# Altium footprint library PCB_Smart_FAN_Controller_RevA.PcbLib: 18 footprints (part 1 of 2)
Each footprint in its own frame and in the unit in brackets; x right, y up, seen from the top. Pads: shape width x height; smd on the part's side, far side on the other; paste and mask are expansions set on the pad; w line width, h text height; cw(c..) or ccw(c..) is an arc to the next point about the centre after c.
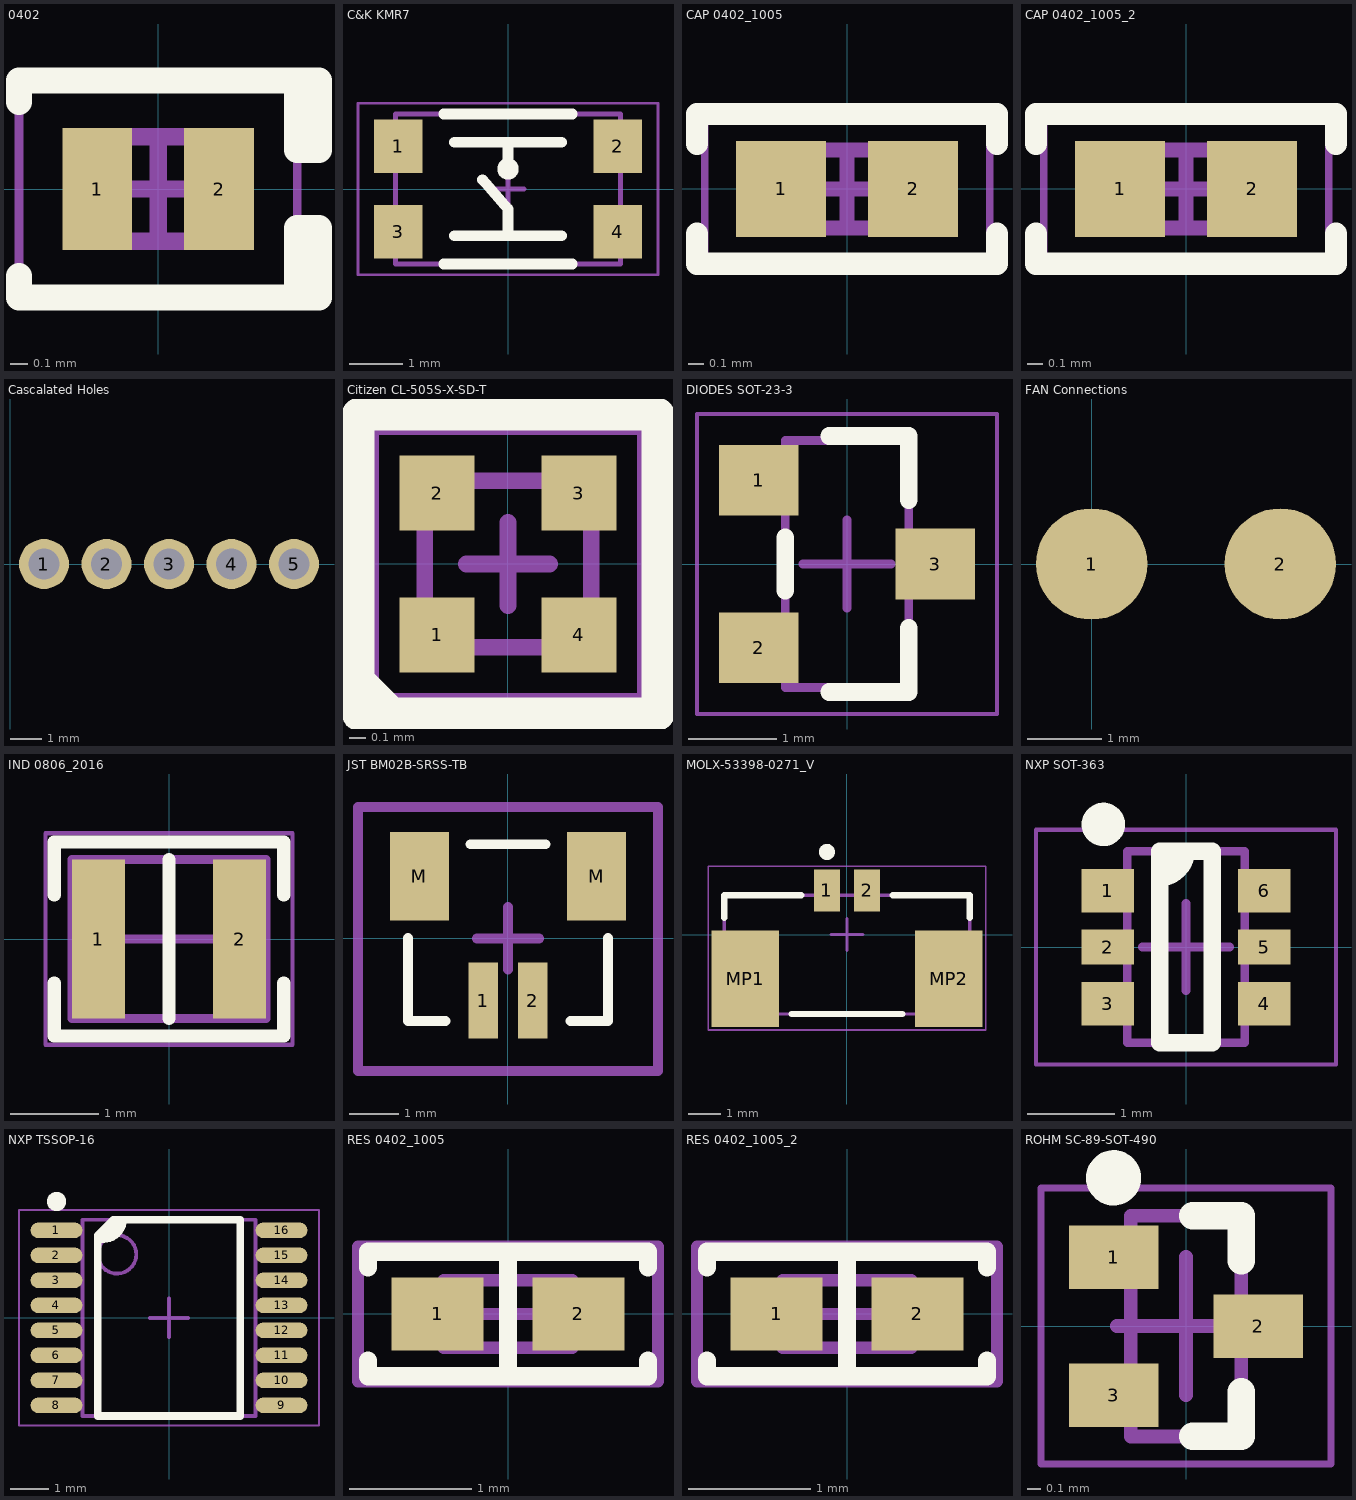
[diagram p0: the footprints below, top view; thin cyan lines are the x and y axes]

## 0402 [mm] "SODFL, 2-Leads, Body 0.675x1.075mm, IPC Medium Density"
height 0.4
pads (2):
  rect 0.4x0.7 smd: 1(-0.35,0) 2(0.35,0)
Top Overlay:
  lines w0.15: -0.8,-0.5 -0.8,-0.625 0.8,-0.625 ; -0.8,0.5 -0.8,0.625 0.8,0.625 ; 0.8,-0.625 0.925,-0.625 0.925,-0.225 0.8,-0.225 0.8,-0.625 ; 0.8,0.625 0.8,0.225 0.925,0.225 0.925,0.625 0.8,0.625
Mechanical 13:
  lines w0.1: -0.4,-0.3 0.4,-0.3 0.4,0.3 -0.4,0.3 -0.4,-0.3
Mechanical 15:
  lines w0.05: -0.8,-0.6 0.8,-0.6 0.8,0.6 -0.8,0.6 -0.8,-0.6
  lines w0.1: -0.25,0 0.25,0 ; 0,-0.25 0,0.25
3D body "DIODE - 0402.step": height 0.45, standoff 0, extent -0.505,-0.305 0.505,0.305

## C&K KMR7 [mm] "T-Switch, 4-leads, body 4.2x2.8mm, C&K KMR741NG ULC LFS"
height 2.5
pads (4):
  rect 0.9x1 smd mask+0.1: 1(-2.05,0.8) 2(2.05,0.8) 3(-2.05,-0.8) 4(2.05,-0.8)
Top Overlay:
  circle w0.2: c0,0.375 r0.1
  lines w0.2: -1.2,-1.4 1.2,-1.4 ; -1.2,1.4 1.2,1.4 ; -1,-0.875 1,-0.875 ; -1,0.875 1,0.875 ; -0.475,0.175 0,-0.375 0,-0.875 ; 0,0.375 0,0.875
Mechanical 13:
  lines w0.1: -2.1,-1.4 2.1,-1.4 2.1,1.4 -2.1,1.4 -2.1,-1.4
Mechanical 15:
  lines w0.05: -2.8,-1.6 2.8,-1.6 2.8,1.6 -2.8,1.6 -2.8,-1.6
  lines w0.1: -0.3,0 0.3,0 ; 0,-0.3 0,0.3
3D body "C&K - KMR7.step": height 2.5, standoff 0, extent -2.3,-1.4 2.3,1.4

## CAP 0402_1005 [mm] "Chip Capacitor, 2-Leads, Body 1.02x0.51mm, IPC Medium Density"
height 0.52
pads (2):
  rect 0.6x0.64 smd: 1(-0.44,0) 2(0.44,0)
Top Overlay:
  lines w0.15: -1,-0.3 -1,-0.5 1,-0.5 1,-0.3 ; -1,0.3 -1,0.5 1,0.5 1,0.3
Mechanical 13:
  lines w0.1: -0.515,-0.26 -0.515,0.26 0.515,0.26 0.515,-0.26 -0.515,-0.26
Mechanical 15:
  lines w0.05: -0.95,-0.5 -0.95,0.5 0.95,0.5 0.95,-0.5 -0.95,-0.5
  lines w0.1: -0.26,0 0.26,0 ; 0,-0.26 0,0.26
3D body "0402 cap.STEP": height 0.52, standoff 0, extent -0.5,-0.262 0.5,0.262

## CAP 0402_1005_2 [mm]
pads (2):
  rect 0.6x0.64 smd: 1(-0.44,0) 2(0.44,0)
Top Overlay:
  lines w0.15: -1,-0.3 -1,-0.5 1,-0.5 1,-0.3 ; -1,0.3 -1,0.5 1,0.5 1,0.3
Mechanical 13:
  lines w0.1: -0.515,-0.26 -0.515,0.26 0.515,0.26 0.515,-0.26 -0.515,-0.26
Mechanical 15:
  lines w0.05: -0.95,-0.5 -0.95,0.5 0.95,0.5 0.95,-0.5 -0.95,-0.5
  lines w0.1: -0.26,0 0.26,0 ; 0,-0.26 0,0.26
3D body "0402 cap.STEP": height 0.52, standoff 0, extent -0.5,-0.262 0.5,0.262

## Cascalated Holes [mm] "Plated Through Hole: Hole Dia.=1.2mm Pad Dia.=2.0mm"
pads (5):
  round 1.6 hole 1: 1(1.08,0) 2(3.08,0) 3(5.08,0) 4(7.08,0) 5(9.08,0)

## Citizen CL-505S-X-SD-T [mm] "4-Leads, Body 1.0x1.0mm"
height 0.26
pads (4):
  rect 0.45x0.45 smd mask+0: 1(-0.425,-0.425) 3(0.425,0.425)
  rect 0.45x0.45 smd paste+0 mask+0: 2(-0.425,0.425) 4(0.425,-0.425)
Top Overlay:
  lines w0.2: -0.898,-0.9 -0.9,-0.898 ; -0.702,-0.898 -0.9,-0.898 ; -0.9,-0.898 -0.9,-0.7 ; -0.9,-0.7 -0.9,0.9 0.9,0.9 0.9,-0.9 -0.7,-0.9 -0.9,-0.7
Mechanical 13:
  lines w0.1: -0.5,-0.5 0.5,-0.5 0.5,0.5 -0.5,0.5 -0.5,-0.5
Mechanical 15:
  lines w0.05: -0.8,-0.8 -0.8,0.8 0.8,0.8 0.8,-0.8 -0.8,-0.8
  lines w0.1: -0.25,0 0.25,0 ; 0,-0.25 0,0.25
3D body "Citizen - CL-505S.step": height 0.26, standoff 0, extent -0.501,-0.5 0.5,0.5

## DIODES SOT-23-3 [mm] "SOT23, 3-Leads, Body 2.90x2.40mm, Pitch 0.95mm, IPC Medium Density"
height 1.35
pads (3):
  rect 0.9x0.8 smd: 1(-1,0.95) 2(-1,-0.95) 3(1,0)
Top Overlay:
  lines w0.2: -0.7,-0.3 -0.7,0.3 ; -0.2,-1.45 0.7,-1.45 0.7,-0.725 ; -0.2,1.45 0.7,1.45 0.7,0.725
Mechanical 13:
  lines w0.1: -0.7,-1.4 0.7,-1.4 0.7,1.4 -0.7,1.4 -0.7,-1.4
Mechanical 15:
  lines w0.05: -1.7,-1.7 1.7,-1.7 1.7,1.7 -1.7,1.7 -1.7,-1.7
  lines w0.1: -0.5,0 0.5,0 ; 0,-0.5 0,0.5
3D body "sot-23-3.STEP": height 1.5, standoff 0, extent -1.41,-1.45 1.411,1.45

## FAN Connections [mm]
pads (2):
  round 1.5 smd: 1(0,0) 2(2.54,0)

## IND 0806_2016 [mm] "Chip Capacitor, 2-Leads, Body 2.00x1.20mm, IPC Medium Density"
height 1.8
pads (2):
  rect 0.6x1.8 smd: 1(-0.8,0) 2(0.8,0)
Top Overlay:
  lines w0.15: -1.3,-0.5 -1.3,-1.1 1.3,-1.1 1.3,-0.5 ; -1.3,0.5 -1.3,1.1 1.3,1.1 1.3,0.5 ; 0,-0.9 0,0.9
Mechanical 13:
  lines w0.1: -1.1,-0.9 -1.1,0.9 1.1,0.9 1.1,-0.9 -1.1,-0.9
Mechanical 15:
  lines w0.05: -1.4,-1.2 -1.4,1.2 1.4,1.2 1.4,-1.2 -1.4,-1.2
  lines w0.1: -0.5,0 0.5,0 ; 0,-0.5 0,0.5
3D body "INDUC 0806.step": height 1.81, standoff -0.01, extent -1.01,-0.91 1.01,0.91

## JST BM02B-SRSS-TB [mm] "1.0mm pitch/Disconnectable Crimp style connector"
height 2.95
pads (4):
  rect 0.6x1.55 smd: 1(-0.5,-1.262) 2(0.5,-1.262)
  rect 1.2x1.8 smd: M(-1.8,1.262) M(1.8,1.262)
Top Overlay:
  lines w0.2: -2.032,0.008 -2.032,-1.676 -1.27,-1.676 ; -0.762,1.913 0.762,1.913 ; 1.27,-1.676 2.032,-1.676 2.032,0.008
Mechanical 15:
  lines w0.2: -0.635,0 0.635,0 ; 0,-0.635 0,0.635 ; -3.048,-2.692 -3.048,2.667 3.048,2.667 3.048,-2.692 -3.048,-2.692
3D body "JST BM02B-SRSS-TB.STEP": height 4.32, standoff 0, extent -2,-1.687 2,1.913

## MOLX-53398-0271_V [mm] "Header, 2-Leads, Body 7.65x3.7mm, Pitch 1.25mm"
height 4.7
pads (4):
  rect 0.8x1.3 smd: 1(-0.625,1.375) 2(0.625,1.375)
  rect 2.1x3 smd: MP1(-3.175,-1.375) MP2(3.175,-1.375)
Top Overlay:
  circle w0.25: c-0.625,2.575 r0.125
  lines w0.2: -3.825,0.525 -3.825,1.225 -1.425,1.225 ; -1.725,-2.475 1.725,-2.475 ; 1.425,1.225 3.825,1.225 3.825,0.525
Mechanical 13:
  lines w0.1: -3.825,-2.475 3.825,-2.475 3.825,1.225 -3.825,1.225 -3.825,-2.475
Mechanical 15:
  lines w0.05: -4.325,-2.975 -4.325,2.125 4.325,2.125 4.325,-2.975 -4.325,-2.975
  lines w0.1: -0.5,0 0.5,0 ; 0,-0.5 0,0.5
3D body "533980271.stp": height 4.72, standoff -0.02, extent -3.825,-2.489 3.825,1.711

## NXP SOT-363 [mm] "SOT363, 6-Leads, Body 2.00x2.10mm, Pitch 0.65mm, IPC Medium Density"
height 1.1
pads (6):
  rect 0.6x0.5 smd: 1(-0.9,0.65) 3(-0.9,-0.65) 4(0.9,-0.65) 6(0.9,0.65)
  rect 0.6x0.4 smd: 2(-0.9,0) 5(0.9,0)
Top Overlay:
  circle w0.25: c-0.95,1.41 r0.125
  lines w0.2: -0.3,0.8 ccw(c-0.3,1.1) 0,1.1 ; -0.3,0.9 ccw(c-0.3,1.1) -0.1,1.1 ; -0.3,-1.1 0.3,-1.1 0.3,1.1 -0.3,1.1 -0.3,-1.1
Mechanical 13:
  lines w0.1: -0.675,-1.1 -0.675,1.1 0.675,1.1 0.675,-1.1 -0.675,-1.1
Mechanical 15:
  lines w0.05: -1.725,-1.35 -1.725,1.35 1.725,1.35 1.725,-1.35 -1.725,-1.35
  lines w0.1: -0.5,0 0.5,0 ; 0,-0.5 0,0.5
3D body "SOT-363.STEP": height 1.05, standoff 0, extent -1.058,-1.1 1.058,1.1

## NXP TSSOP-16 [mm] "TSSOP, 16-Leads, Body 5.00x4.40mm, Pitch 0.65mm, IPC Medium Density"
height 1.1
pads (16):
  oval 1.35x0.4 smd: 1(-2.925,2.275) 2(-2.925,1.625) 3(-2.925,0.975) 4(-2.925,0.325) 5(-2.925,-0.325) 6(-2.925,-0.975) 7(-2.925,-1.625) 8(-2.925,-2.275) 9(2.925,-2.275) 10(2.925,-1.625) 11(2.925,-0.975) 12(2.925,-0.325) 13(2.925,0.325) 14(2.925,0.975) 15(2.925,1.625) 16(2.925,2.275)
Top Overlay:
  circle w0.25: c-2.925,3.025 r0.125
  region: -1.5,2.55 -1.2,2.55 -1.2,2.451 -1.276,2.267 -1.417,2.126 -1.601,2.05 -1.7,2.05 -1.8,2.05 -1.8,2.25
  lines w0.2: -1.8,2.05 -1.7,2.05 ccw(c-1.7,2.55) -1.2,2.55 ; -1.85,-2.55 1.85,-2.55 1.85,2.55 -1.45,2.55 -1.85,2.15 -1.85,-2.55
Mechanical 13:
  circle w0.1: c-1.35,1.65 r0.5
  lines w0.1: -2.25,-2.55 2.25,-2.55 2.25,2.55 -2.25,2.55 -2.25,-2.55
Mechanical 15:
  lines w0.05: -3.9,-2.8 3.9,-2.8 3.9,2.8 -3.9,2.8 -3.9,-2.8
  lines w0.1: -0.5,0 0.5,0 ; 0,-0.5 0,0.5
3D body "TSSOP-16.STEP": height 1.1, standoff 0, extent -3.21,-2.5 3.211,2.5

## RES 0402_1005 [mm] "Chip Resistor, 2-Leads, Body 1.0x0.5mm, IPC Medium Density"
height 0.4
pads (2):
  rect 0.75x0.6 smd: 1(-0.575,0) 2(0.575,0)
Top Overlay:
  lines w0.15: -1.143,-0.381 -1.143,-0.508 1.143,-0.508 1.143,-0.381 ; -1.143,0.381 -1.143,0.508 1.143,0.508 1.143,0.381 ; 0,-0.508 0,0.508
Mechanical 13:
  lines w0.1: -0.525,-0.275 -0.525,0.275 0.525,0.275 0.525,-0.275 -0.525,-0.275
Mechanical 15:
  lines w0.1: -0.275,0 0.275,0 ; 0,-0.275 0,0.275 ; -1.225,-0.55 -1.225,0.55 1.225,0.55 1.225,-0.55 -1.225,-0.55
3D body "0402 resistor.STEP": height 0.35, standoff 0, extent -0.5,-0.25 0.5,0.25

## RES 0402_1005_2 [mm]
pads (2):
  rect 0.75x0.6 smd: 1(-0.575,0) 2(0.575,0)
Top Overlay:
  lines w0.15: -1.143,-0.381 -1.143,-0.508 1.143,-0.508 1.143,-0.381 ; -1.143,0.381 -1.143,0.508 1.143,0.508 1.143,0.381 ; 0,-0.508 0,0.508
Mechanical 13:
  lines w0.1: -0.525,-0.275 -0.525,0.275 0.525,0.275 0.525,-0.275 -0.525,-0.275
Mechanical 15:
  lines w0.1: -0.275,0 0.275,0 ; 0,-0.275 0,0.275 ; -1.225,-0.55 -1.225,0.55 1.225,0.55 1.225,-0.55 -1.225,-0.55
3D body "0402 resistor.STEP": height 0.35, standoff 0, extent -0.5,-0.25 0.5,0.25

## ROHM SC-89-SOT-490 [mm] "SC-89(SOT-490), 3-Leads, Body 0.8x1.60mm, Pitch 0.50mm, IPC Medium Density"
height 0.85
pads (3):
  rect 0.65x0.46 smd: 1(-0.525,0.5) 2(0.525,0) 3(-0.525,-0.5)
Top Overlay:
  circle w0.2: c-0.525,1.075 r0.1
  lines w0.2: 0.05,-0.8 0.4,-0.8 0.4,-0.475 ; 0.05,0.8 0.4,0.8 0.4,0.475
Mechanical 13:
  lines w0.1: -0.4,-0.8 0.4,-0.8 0.4,0.8 -0.4,0.8 -0.4,-0.8
Mechanical 15:
  lines w0.05: -1.05,-1 -1.05,1 1.05,1 1.05,-1 -1.05,-1
  lines w0.1: -0.5,0 0.5,0 ; 0,-0.5 0,0.5
3D body "SC-89 SOT-490 SOT-416FL.step": height 0.85, standoff 0, extent -0.8,-0.8 0.8,0.8